# EAGLE library part CONN_1X04_SHX2 (library GPLIB_CONN)
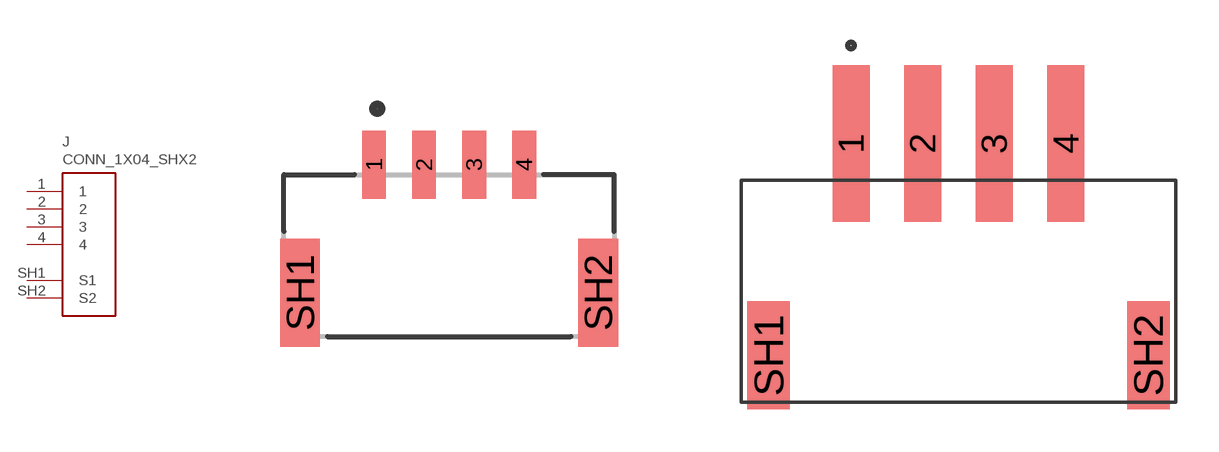
[diagram p53: symbol with the pads of CONN_1X04_1.25MM_SM_RA_SM04B-GHS-TB(LF)(SN); footprints CONN_1X04_1.25MM_SM_RA_SM04B-GHS-TB(LF)(SN), CONN_1X04_2.54MM_SM_RA_HCZZ0520-4]

Designator prefix J

## CONN_1X04_SHX2_1.25MM_SM_RA_SM04B-GHS-TB(LF)(SN)  [CONN_1X04_1.25MM_SM_RA_SM04B-GHS-TB(LF)(SN)]
1  1  pas
2  2  pas
3  3  pas
4  4  pas
SH1  S1  pas
SH2  S2  pas

## CONN_1X04_SHX2_2.54MM_SM_RA_HCZZ0520-4  [CONN_1X04_2.54MM_SM_RA_HCZZ0520-4]
Pads as for CONN_1X04_1.25MM_SM_RA_SM04B-GHS-TB(LF)(SN)

## CONN_1X04_SHX2_2.5MM_SM_RA_JST_S4B-XH-SM4-TB  [CONN_1X04_2.5MM_SM_RA_JST_S4B-XH-SM4-TB]
Pads as for CONN_1X04_1.25MM_SM_RA_SM04B-GHS-TB(LF)(SN)

## CONN_1X04_SHX2_2.0MM_SM_RA_JST_S4B-PH-SM4-TB  [CONN_1X04_2.0MM_SM_RA_JST_S4B-PH-SM4-TB]
Pads as for CONN_1X04_1.25MM_SM_RA_SM04B-GHS-TB(LF)(SN)

## Footprint CONN_1X04_1.25MM_SM_RA_SM04B-GHS-TB(LF)(SN) (pad centres in mm)
smd 0.6 x 1.7: 1 -1.875,2.275; 2 -0.625,2.275; 3 0.625,2.275; 4 1.875,2.275
smd 1 x 2.7: SH1 -3.725,-0.925; SH2 3.725,-0.925

## Footprint CONN_1X04_2.54MM_SM_RA_HCZZ0520-4 (pad centres in mm)
smd 1.3 x 5.5: 1 -3.78,5.55; 2 -1.26,5.55; 3 1.26,5.55; 4 3.78,5.55
smd 1.5 x 3.8: SH1 -6.68,-1.9; SH2 6.68,-1.9

## Footprint CONN_1X04_2.5MM_SM_RA_JST_S4B-XH-SM4-TB (pad centres in mm)
smd 1.3 x 4.5: 1 -3.75,4.3; 2 -1.25,4.3; 3 1.25,4.3; 4 3.75,4.3
smd 1.8 x 3.9: SH1 -6.95,-2.5; SH2 6.95,-2.5

## Footprint CONN_1X04_2.0MM_SM_RA_JST_S4B-PH-SM4-TB (pad centres in mm)
smd 1 x 3.5: 1 3,-4.8; 2 1,-4.8; 3 -1,-4.8; 4 -3,-4.8
smd 1.6 x 3.4: SH1 -5.4,1.125; SH2 5.4,1.125